# EAGLE library part PIC18F14K50 (library STEMTera)
PIC18F/LF1XK50 20-Pin USB Flash Microcontrollers with nanoWatt XLP Technology. PIC18F13K50, PIC18LF13K50, PIC18F14K50, PIC18LF14K50. From: http://ww1.microchip.com/downloads/en/DeviceDoc/41350E.pdf
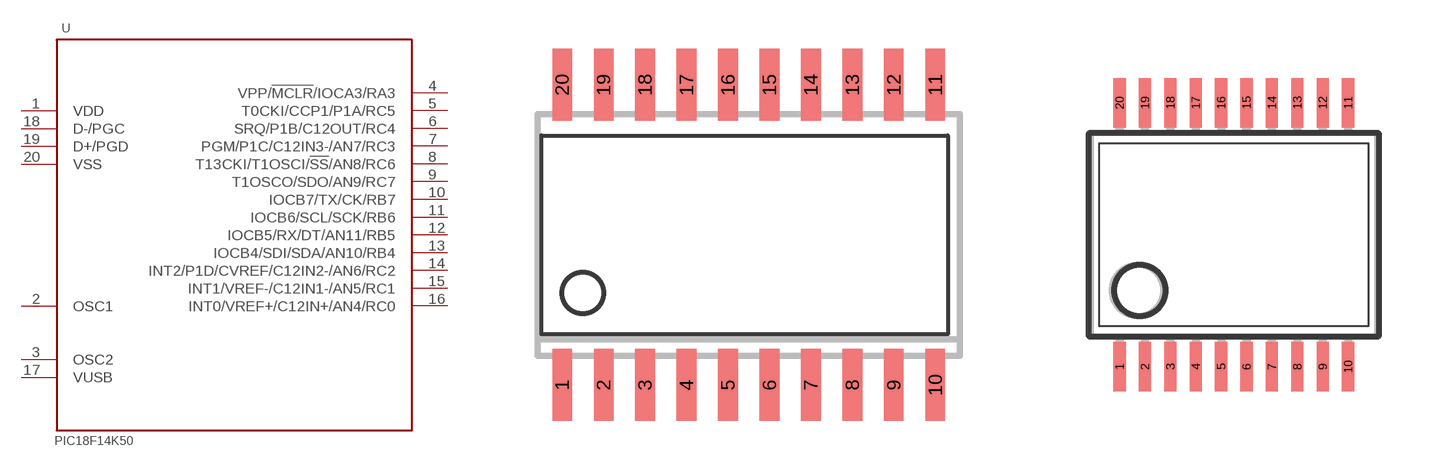
[diagram p0: symbol with the pads of SO20W; footprints SO20W, SSOP20]

Designator prefix -

## PIC18F14K50-SOIC  [SO20W]
1  VDD  pwr
2  OSC1
3  OSC2
4  VPP/!MCLR!/IOCA3/RA3
5  T0CKI/CCP1/P1A/RC5
6  SRQ/P1B/C12OUT/RC4
7  PGM/P1C/C12IN3-/AN7/RC3
8  T13CKI/T1OSCI/!SS!/AN8/RC6
9  T1OSCO/SDO/AN9/RC7
10  IOCB7/TX/CK/RB7
11  IOCB6/SCL/SCK/RB6
12  IOCB5/RX/DT/AN11/RB5
13  IOCB4/SDI/SDA/AN10/RB4
14  INT2/P1D/CVREF/C12IN2-/AN6/RC2
15  INT1/VREF-/C12IN1-/AN5/RC1
16  INT0/VREF+/C12IN+/AN4/RC0
17  VUSB  pwr
18  D-/PGC
19  D+/PGD
20  VSS  pwr

## PIC18F14K50-SSOP  [SSOP20]
Pads as for SO20W

## Footprint SO20W (pad centres in mm)
SOIC 20W
smd 0.6 x 2.2: 1 -5.715,-4.6; 2 -4.445,-4.6; 3 -3.175,-4.6; 4 -1.905,-4.6; 5 -0.635,-4.6; 6 0.635,-4.6; 7 1.905,-4.6; 8 3.175,-4.6; 9 4.445,-4.6; 10 5.715,-4.6; 11 5.715,4.6; 12 4.445,4.6; 13 3.175,4.6; 14 1.905,4.6; 15 0.635,4.6; 16 -0.635,4.6; 17 -1.905,4.6; 18 -3.175,4.6; 19 -4.445,4.6; 20 -5.715,4.6

## Footprint SSOP20 (pad centres in mm)
SSOP 20
smd 0.305 x 1.245: 1 -0.317,-3.302; 2 0.318,-3.302; 3 0.953,-3.302; 4 1.588,-3.302; 5 2.223,-3.302; 6 2.858,-3.302; 7 3.493,-3.302; 8 4.128,-3.302; 9 4.763,-3.302; 10 5.398,-3.302; 11 5.398,3.302; 12 4.763,3.302; 13 4.128,3.302; 14 3.493,3.302; 15 2.858,3.302; 16 2.223,3.302; 17 1.588,3.302; 18 0.953,3.302; 19 0.318,3.302; 20 -0.317,3.302